# Altium footprint library 8-TSON - TOSHIBA.PcbLib: 1 footprints
Each footprint in its own frame and in the unit in brackets; x right, y up, seen from the top. Pads: shape width x height; smd on the part's side, far side on the other; paste and mask are expansions set on the pad; w line width, h text height; cw(c..) or ccw(c..) is an arc to the next point about the centre after c.
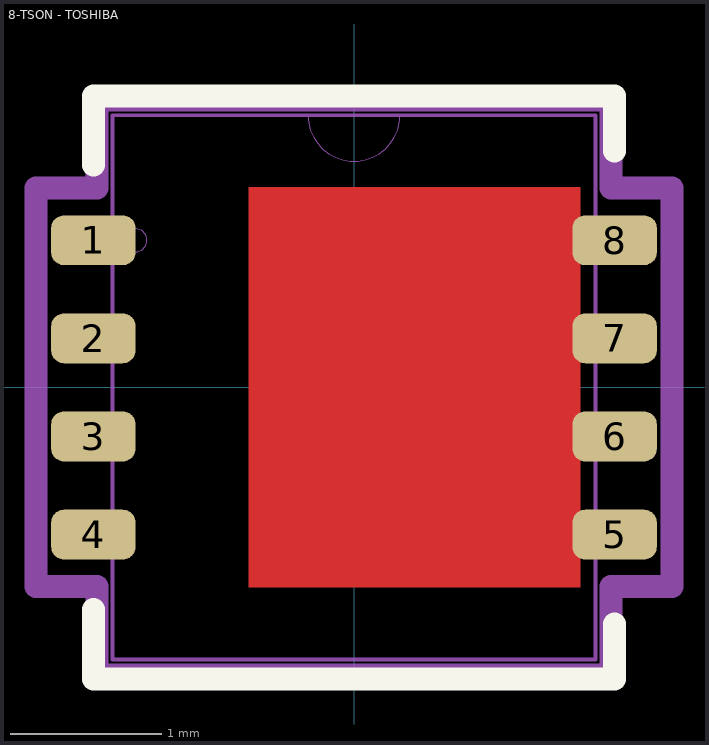
[diagram p0: the footprint, top view; thin cyan lines are the x and y axes]

## 8-TSON - TOSHIBA [mil]
pads (8):
  rrect50% 22x13 smd paste+0 mask+0: 1(-68,38.39) 2(-68,12.8) 3(-68,-12.8) 4(-68,-38.39) 5(68,-38.39) 6(68,-12.8) 7(68,12.8) 8(68,38.39)
Top Layer:
  region: 59,-52.17 59,52.17 -27.43,52.17 -27.43,-52.17
Top Overlay:
  lines w6: -68,-57.99 -68,-76 68,-76 68,-61.68 ; -68,57.99 -68,76 68,76 68,61.68
Top Paste:
  region: 59,-52.17 59,52.17 -27.43,52.17 -27.43,-52.17
Top Solder:
  region: 59,-52.17 59,52.17 -27.43,52.17 -27.43,-52.17
Mechanical 13:
  circle w0: c-57,38.39 r3
  lines w0: -12,71 ccw(c0,71) 12,71
  lines w1: -63,-71 63,-71 63,71 -63,71 -63,-71
Mechanical 15:
  lines w6: -83,-51.98 -83,51.98 -67,51.98 -67,75 67,75 67,51.98 83,51.98 83,-51.98 67,-51.98 67,-75 -67,-75 -67,-51.98 -83,-51.98
Top Designator:
  text ".Designator" at -38.06,-43.29 h9.84
3D body "TSON8_2-3X1S_TOS.step": height 35.12, standoff 0, extent -70.98,-70.98 70.98,70.98